# Altium footprint library STMicroelectronics Battery Managment.PcbLib: 2 footprints
Each footprint in its own frame and in the unit in brackets; x right, y up, seen from the top. Pads: shape width x height; smd on the part's side, far side on the other; paste and mask are expansions set on the pad; w line width, h text height; cw(c..) or ccw(c..) is an arc to the next point about the centre after c.
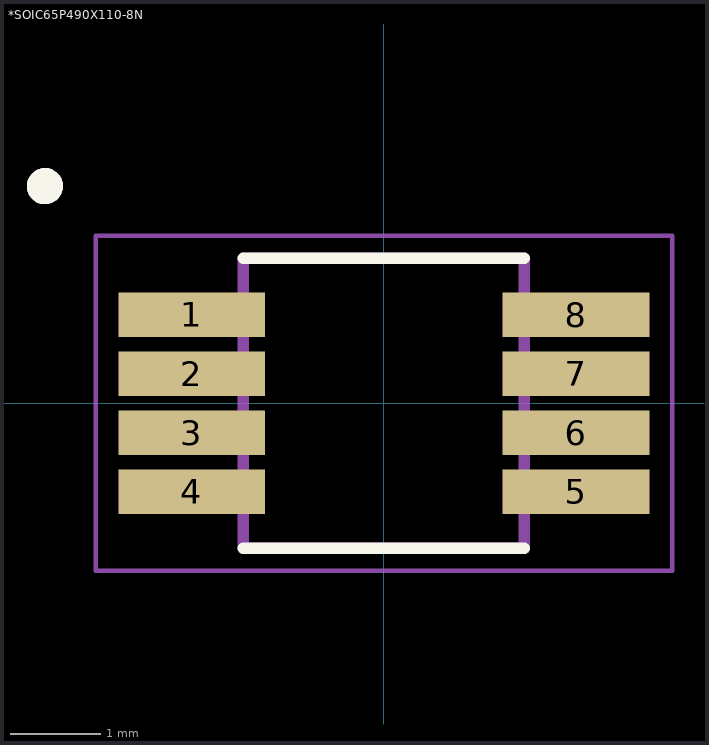
[diagram p0: the footprints below, top view; thin cyan lines are the x and y axes]

## *SOIC65P490X110-8N [mm]
pads (8):
  rect 1.62x0.49 smd: 1(-2.12,0.975) 2(-2.12,0.325) 3(-2.12,-0.325) 4(-2.12,-0.975) 5(2.12,-0.975) 6(2.12,-0.325) 7(2.12,0.325) 8(2.12,0.975)
Top Overlay:
  circle w0.2: c-3.74,2.395 r0.1
  lines w0.127: -1.55,-1.6 1.55,-1.6 ; -1.55,1.6 1.55,1.6
Mechanical 13:
  circle w0.2: c-3.74,2.395 r0.1
  circle w0.2: c-3.74,2.395 r0.1
  lines w0.127: -1.55,-1.6 1.55,-1.6 ; -1.55,-1.6 -1.55,1.6 ; -1.55,-1.6 1.55,-1.6 ; -1.55,-1.6 -1.55,1.6 ; -1.55,1.6 1.55,1.6 ; -1.55,1.6 1.55,1.6 ; 1.55,-1.6 1.55,1.6 ; 1.55,-1.6 1.55,1.6
Mechanical 15:
  lines w0.05: -3.18,-1.85 3.18,-1.85 3.18,1.85 -3.18,1.85 -3.18,-1.85

## PCBComponent_1 [mm]